# Altium schematic symbol library PAM8302A.SchLib: 1 symbol
Pins are listed as number, name and electrical type; pins without a type are passive.

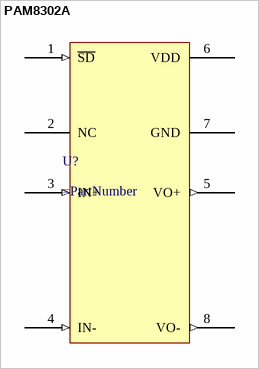
[diagram p0: symbol PAM8302A]

## PAM8302A
designator U?
pins: 1 ~{SD} (in), 2 NC, 3 IN+ (in), 4 IN- (in), 5 VO+ (out), 6 VDD, 7 GND, 8 VO- (out)